# EAGLE library part STUSB4710 (library ds_ic_peripherals)
Stand-alone USB PD controller (with short-to-VBUS protection)
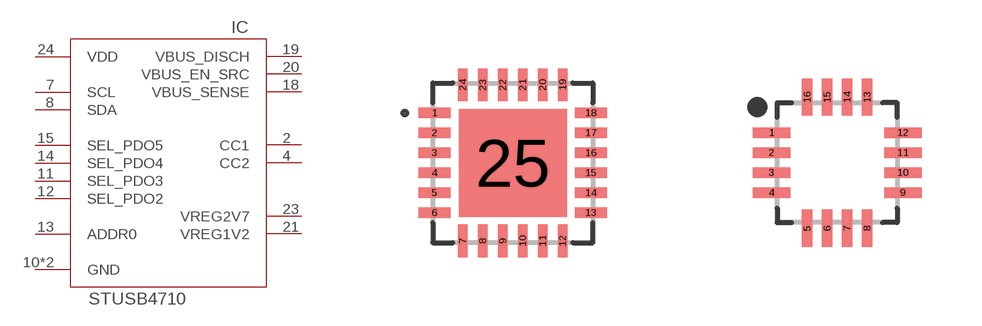
[diagram p86: symbol with the pads of QFN24; footprints QFN24, QFN50P300X300X55-16N]

Designator prefix IC

## STUSB4710AQTR (DATASHEET: https://www.st.com/content/ccc/resource/technical/document/datasheet/group3/2f/24/4e/67/ed/d6/4b/af/DM00383615/files/DM00383615.pdf/jcr:content/translations/en.DM00383615.pdf)  [QFN24]
2  CC1
4  CC2
7  SCL  in
8  SDA
10  GND  pwr
11  SEL_PDO3  oc
12  SEL_PDO2  oc
13  ADDR0  in
14  SEL_PDO4  oc
15  SEL_PDO5  oc
18  VBUS_SENSE  in
19  VBUS_DISCH  out
20  VBUS_EN_SRC  oc
21  VREG1V2  in
23  VREG2V7  in
24  VDD  pwr
25  GND  pwr

## STUSB4710AQ1TR  [QFN50P300X300X55-16N]
1  VDD  pwr
2  CC1
3  CC2
4  SCL  in
5  SDA
6  GND  pwr
7  SEL_PDO3  oc
8  SEL_PDO2  oc
9  ADDR0  in
10  SEL_PDO4  oc
11  SEL_PDO5  oc
12  VBUS_SENSE  in
13  VBUS_DISCH  out
14  VBUS_EN_SRC  oc
15  VREG1V2  in
16  VREG2V7  in

## Footprint QFN24 (pad centres in mm)
smd 0.81 x 0.26: 1 -1.955,1.25; 2 -1.955,0.75; 3 -1.955,0.25; 4 -1.955,-0.25; 5 -1.955,-0.75; 6 -1.955,-1.25; 13 1.955,-1.25; 14 1.955,-0.75; 15 1.955,-0.25; 16 1.955,0.25; 17 1.955,0.75; 18 1.955,1.25
smd 0.26 x 0.81: 7 -1.25,-1.955; 8 -0.75,-1.955; 9 -0.25,-1.955; 10 0.25,-1.955; 11 0.75,-1.955; 12 1.25,-1.955; 19 1.25,1.955; 20 0.75,1.955; 21 0.25,1.955; 22 -0.25,1.955; 23 -0.75,1.955; 24 -1.25,1.955
smd 2.7 x 2.7: 25 0,0

## Footprint QFN50P300X300X55-16N (pad centres in mm)
16-QFN, 0.50 mm pitch, 3.00 X 3.00 X 0.55 mm body 16-pin QFN package with 0.50 mm pitch with body size 3.00 X 3.00 X 0.55 mm
smd 0.937 x 0.264: 1 -1.641,0.75; 2 -1.641,0.25; 3 -1.641,-0.25; 4 -1.641,-0.75; 9 1.641,-0.75; 10 1.641,-0.25; 11 1.641,0.25; 12 1.641,0.75
smd 0.264 x 0.937: 5 -0.75,-1.641; 6 -0.25,-1.641; 7 0.25,-1.641; 8 0.75,-1.641; 13 0.75,1.641; 14 0.25,1.641; 15 -0.25,1.641; 16 -0.75,1.641